# EAGLE library part RS9110-N-11-28 (library Neel)
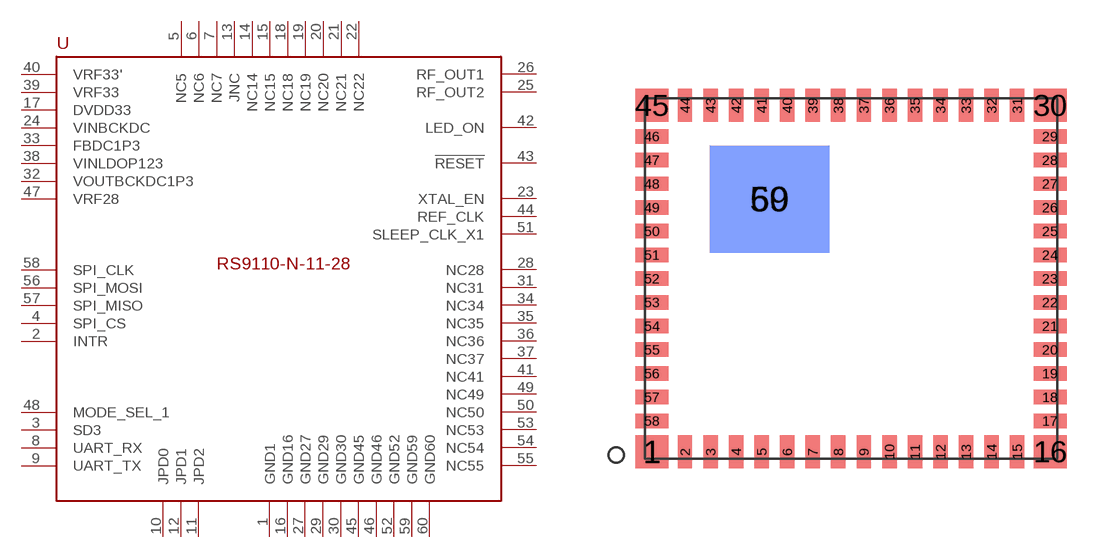
[diagram p48: symbol with the pads of RS9110-N-11-28; footprint RS9110-N-11-28]

Designator prefix U

## RS9110-N-11-28  [RS9110-N-11-28]
1  GND1
2  INTR
3  SD3
4  SPI_CS
5  NC5
6  NC6
7  NC7
8  UART_RX
9  UART_TX
10  JPD0
11  JPD2
12  JPD1
13  JNC
14  NC14
15  NC15
16  GND16
17  DVDD33
18  NC18
19  NC19
20  NC20
21  NC21
22  NC22
23  XTAL_EN
24  VINBCKDC
25  RF_OUT2
26  RF_OUT1
27  GND27
28  NC28
29  GND29
30  GND30
31  NC31
32  VOUTBCKDC1P3
33  FBDC1P3
34  NC34
35  NC35
36  NC36
37  NC37
38  VINLDOP123
39  VRF33
40  VRF33'
41  NC41
42  LED_ON
43  !RESET
44  REF_CLK
45  GND45
46  GND46
47  VRF28
48  MODE_SEL_1
49  NC49
50  NC50
51  SLEEP_CLK_X1
52  GND52
53  NC53
54  NC54
55  NC55
56  SPI_MOSI
57  SPI_MISO
58  SPI_CLK
59  GND59
60  GND60

## Footprint RS9110-N-11-28 (pad centres in mm)
smd 1.6 x 1.6: 1 -9.66,-8.4; 16 9.66,-8.4; 30 9.66,8.4; 45 -9.66,8.4
smd 0.7 x 1.6: 2 -8.06,-8.4; 3 -6.82,-8.4; 4 -5.58,-8.4; 5 -4.34,-8.4; 6 -3.1,-8.4; 7 -1.86,-8.4; 8 -0.62,-8.4; 9 0.62,-8.4; 10 1.86,-8.4; 11 3.1,-8.4; 12 4.34,-8.4; 13 5.58,-8.4; 14 6.82,-8.4; 15 8.06,-8.4; 31 8.06,8.4; 32 6.82,8.4; 33 5.58,8.4; 34 4.34,8.4; 35 3.1,8.4; 36 1.86,8.4; 37 0.62,8.4; 38 -0.62,8.4; 39 -1.86,8.4; 40 -3.1,8.4; 41 -4.34,8.4; 42 -5.58,8.4; 43 -6.82,8.4; 44 -8.06,8.4
smd 1.6 x 0.7: 17 9.66,-6.9; 18 9.66,-5.75; 19 9.66,-4.6; 20 9.66,-3.45; 21 9.66,-2.3; 22 9.66,-1.15; 23 9.66,0; 24 9.66,1.15; 25 9.66,2.3; 26 9.66,3.45; 27 9.66,4.6; 28 9.66,5.75; 29 9.66,6.9; 46 -9.66,6.9; 47 -9.66,5.75; 48 -9.66,4.6; 49 -9.66,3.45; 50 -9.66,2.3; 51 -9.66,1.15; 52 -9.66,0; 53 -9.66,-1.15; 54 -9.66,-2.3; 55 -9.66,-3.45; 56 -9.66,-4.6; 57 -9.66,-5.75; 58 -9.66,-6.9
smd 5.8 x 5.2: 59 -3.96,3.85
smd 5.8 x 5.2 bottom: 60 -3.96,3.85